# Altium schematic symbol library general.SchLib: 23 symbols
Pins are listed as number, name and electrical type; pins without a type are passive.

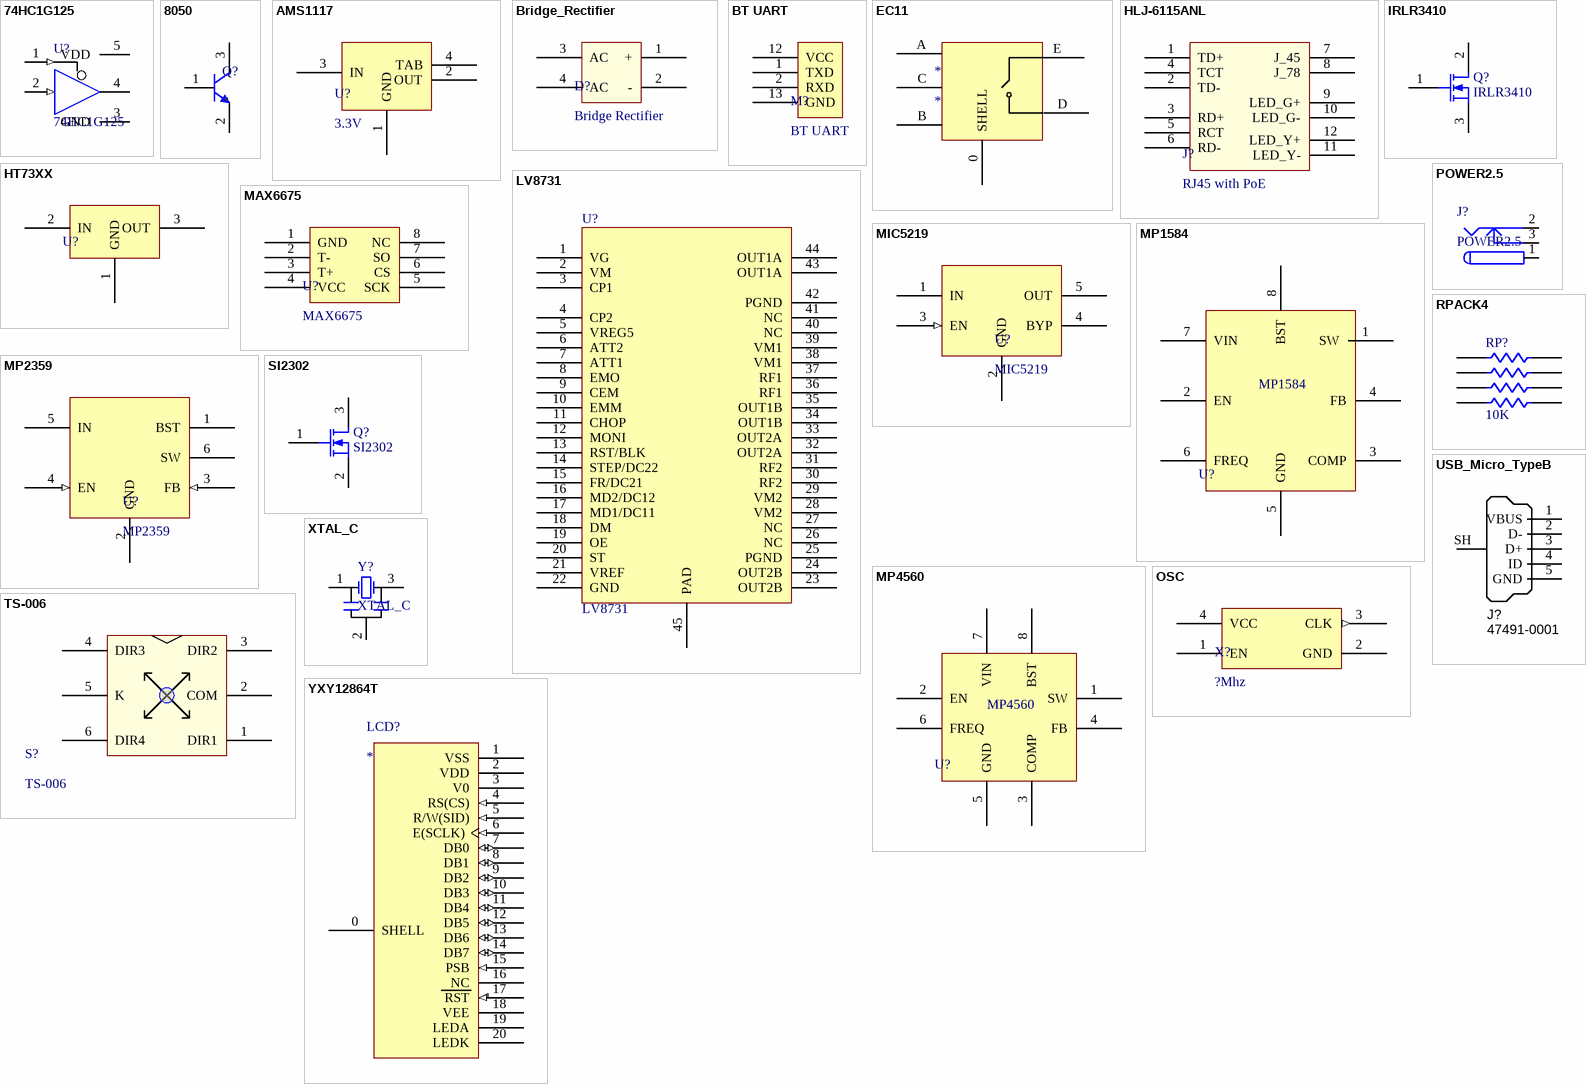
[diagram p0: symbols 74HC1G125 to YXY12864T]

## 74HC1G125
designator U?
Non-Inverting 3-State Buffer; Published: 15-Apr-2002; LatestRevisionDate: 12-Dec-2006; LatestRevisionNote: IPC-7351 Footprint Added.; DatasheetVersion: Feb-2000; PackageVersion: Oct-1999; PackageReference: 419A-01; Publisher: Altium Limited; PackageDescription: 5-Pin SOT-353 Package 0.65 mm Pitch, 2.1 mm Lead Span; ComponentLink1Description: Manufacturer Link; ComponentLink1URL: http://www.onsemi.com/; ComponentLink2Description: Datasheet; ComponentLink2URL: http://www.onsemi.com/pub/Collateral/MC74VHC1G125-D.PDF
footprint SOT23-5
footprint 419A-01_L (SOT353, 5-Leads, Body 2x1.3mm, Pitch 0.65mm, Lead Span 2.1mm, IPC High Density)
footprint 419A-01_M (SOT353, 5-Leads, Body 2x1.3mm, Pitch 0.65mm, Lead Span 2.1mm, IPC Low Density)
pins: 1 ~{OE} (in), 2 A (in), 3 GND (power), 4 Y (hiz), 5 VDD (power)

## 8050
designator Q?
footprint SOT23B (SOT-23; 3 Leads; Body 3.0 x 2.6 mm, inc. leads (LxW max))
pins: 1 B, 2 E, 3 C

## AMS1117
designator U?, comment 3.3V
footprint SOT223-3D (SOT-223/SC-73; 4 Leads; Body 6.7 x 7.3 mm, inc. leads (LxW max))
pins: 1 GND, 2 OUT, 3 IN, 4 TAB

## Bridge_Rectifier
designator D?, comment Bridge Rectifier
footprint DB151S (SOP, 4-Leads, Body 8.30x6.35mm, Pitch 5.10mm, IPC Medium Density)
pins: 1 +, 2 -, 3 AC, 4 AC

## BT UART
designator M?
pins: 1 TXD, 2 RXD, 12 VCC (power), 13 GND

## EC11
designator *
pins: 0 SHELL, A, B, C, D, E 25

## HLJ-6115ANL
designator J?, comment RJ45 with PoE
footprint HR911105A
pins: 1 TD+, 2 TD-, 3 RD+, 4 TCT, 5 RCT, 6 RD-, 7 J_45, 8 J_78, 9 LED_G+, 10 LED_G-, 11 LED_Y-, 12 LED_Y+

## HT73XX
designator U?
Low Power Consumption LDO
footprint SOT89 (SOT89, 3-Leads, Body 4,5x2,4mm (max), Pitch 1,50mm, Lead Span 4,1mm, IPC Medium Density)
pins: 1 GND, 2 IN, 3 OUT

## IRLR3410
designator Q?
TO-252 N-Channel MOSFET; Published: 8-Jun-2000; LatestRevisionDate: 17-Jul-2002; LatestRevisionNote: Re-released for DXP Platform.; PackageVersion: 1995/1996; PackageReference: E3; Publisher: Altium Limited
simulation model NMOS (MOSFET-N)
footprint TO-252 (D-PAK, 3-Pads, Body 6.20x6.71mm (max), IPC Medium Density)
pins: 1 G, 2 D, 3 S

## LV8731
designator U?
footprint SSOP44K (SOP, 44-Leads, Body 15.0x5.6mm (max), Pitch 0.65mm, IPC Low Density)
pins: 1 VG, 2 VM, 3 CP1, 4 CP2, 5 VREG5, 6 ATT2, 7 ATT1, 8 EMO, 9 CEM, 10 EMM, 11 CHOP, 12 MONI, 13 RST/BLK, 14 STEP/DC22, 15 FR/DC21, 16 MD2/DC12, 17 MD1/DC11, 18 DM, 19 OE, 20 ST, 21 VREF, 22 GND, 23 OUT2B, 24 OUT2B, 25 PGND, 26 NC, 27 NC, 28 VM2, 29 VM2, 30 RF2, 31 RF2, 32 OUT2A, 33 OUT2A, 34 OUT1B, 35 OUT1B, 36 RF1, 37 RF1, 38 VM1, 39 VM1, 40 NC, 41 NC, 42 PGND, 43 OUT1A, 44 OUT1A, 45 PAD

## MAX6675
designator U?
footprint SO8 (Small Outline; 8 Leads; Body Width 3.9 mm; Pitch 1.27 mm)
pins: 1 GND, 2 T-, 3 T+, 4 VCC, 5 SCK, 6 CS, 7 SO, 8 NC

## MIC5219
designator U?
500mA-Peak Output LDO Regulator
footprint SOT23-5
pins: 1 IN (power), 2 GND, 3 EN (in), 4 BYP, 5 OUT

## MP1584
designator U?  (value not drawn)
footprint MP1584 (SOIC, 8-Leads, Body 4.9x3.9mm (max), Pitch 1.27mm, IPC Medium Density)
pins: 1 SW, 2 EN, 3 COMP, 4 FB, 5 GND, 6 FREQ, 7 VIN, 8 BST

## MP2359
designator U?
1.2A, 24V, 1.4MHz  Step-Down Converter
footprint SOT23-6
pins: 1 BST, 2 GND, 3 FB (in), 4 EN (in), 5 IN (power), 6 SW (power)

## MP4560
designator U?  (value not drawn)
2A, 2MHz, 55V Step-Down Converter
footprint MP1584 (SOIC, 8-Leads, Body 4.9x3.9mm (max), Pitch 1.27mm, IPC Medium Density)
pins: 1 SW, 2 EN, 3 COMP, 4 FB, 5 GND, 6 FREQ, 7 VIN, 8 BST

## OSC
designator X?, comment ?Mhz
footprint 12SMXB-14SMX (Quartz Crystal, SM; Body 7.5 x 5.1 mm (LxW max))
pins: 1 EN, 2 GND, 3 CLK (out), 4 VCC (power)

## POWER2.5
designator J?
footprint DC_POWER
pins: 1, 2, 3

## RPACK4
designator RP?, comment 10K
footprint 0805-4
footprint R0603x4 (Chip Resistor Array, (0603x4); SM; 8 Leads; Body 3.40 x 1.80 mm (LxW max))
footprint EXB28V (Chip Resistor Array, (0402x4); SM; 8 Leads; Body 2.10 x 1.10 mm (LxW max))
footprint EXBS8V (Chip Resistor Array, (0805x4); SM; 8 Leads; Body 5.28 x 2.40 mm (LxW max))
pins: 1, 2, 3, 4, 5, 6, 7, 8

## SI2302
designator Q?
N-Channel MOSFET; Published: 8-Jun-2000; LatestRevisionDate: 17-Jul-2002; LatestRevisionNote: Re-released for DXP Platform.; PackageVersion: 1995/1996; PackageReference: E3; Publisher: Altium Limited
simulation model NMOS (MOSFET-N)
footprint SOT23B (SOT-23; 3 Leads; Body 3.0 x 2.6 mm, inc. leads (LxW max))
pins: 1 G, 2 S, 3 D

## TS-006
designator S?
footprint TS-006
pins: 1 DIR1, 2 COM, 3 DIR2, 4 DIR3, 5 K, 6 DIR4

## USB_Micro_TypeB
designator J?, comment Manufacturer Part Number 1: 47491-0001  (hidden comment: USB Micro Type B)
Connector SMD USB Micro Type B middle mount; Manufacturer 1: Molex Inc; SCDType: undef; Package / Case: SMD; Supplier 1: Digi-Key; Supplier Part Number 1: WM17142CT-ND
footprint MICRO USB 3D
pins: 1 VBUS, 2 D-, 3 D+, 4 ID, 5 GND, SH Shell

## XTAL_C
designator Y?
Crystal Oscillator; Published: 8-Jun-2000; LatestRevisionDate: 17-Jul-2002; LatestRevisionNote: Re-released for DXP Platform.; PackageReference: R38; Publisher: Altium Limited
simulation model XTAL (Spice Subcircuit)
footprint Crystal_C (含电容晶振，村田 3.)
pins: 1 OSC1, 2 GND, 3 OSC2

## YXY12864T
designator LCD?
pins: 0 SHELL (power), 1 VSS (power), 2 VDD (power), 3 V0 (power), 4 RS(CS) (in), 5 R/W(SID) (in), 6 E(SCLK) (in), 7 DB0 (io), 8 DB1 (io), 9 DB2 (io), 10 DB3 (io), 11 DB4 (io), 12 DB5 (io), 13 DB6 (io), 14 DB7 (io), 15 PSB (in), 16 NC, 17 RST (in), 18 VEE (power), 19 LEDA (power), 20 LEDK (power)